# EAGLE library part 54020-32030LF (library SamacSys_Parts)
IC & Component Sockets PLCC THRU-HOLE 32P Source: Datasheet <https://cdn.amphenol-icc.com/media/wysiwyg/files/drawing/54020.pdf>
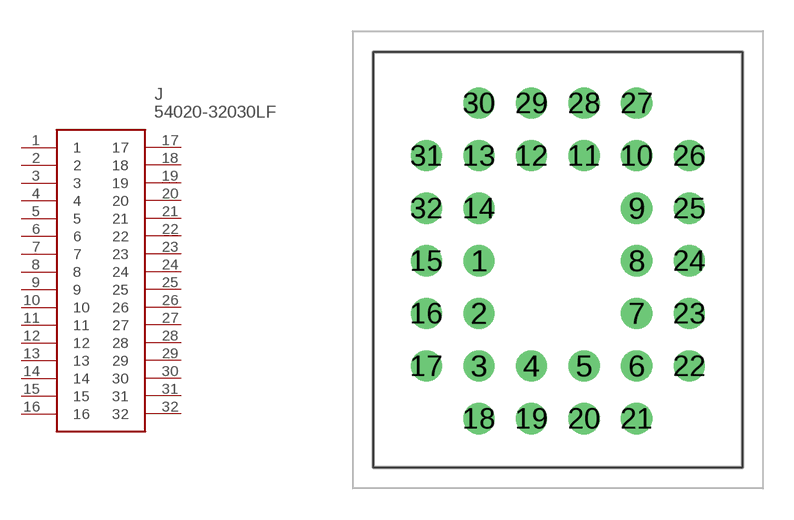
[diagram p169: symbol with the pads of 5402032030LF; footprint 5402032030LF]

Designator prefix J

## 54020-32030LF (DESCRIPTION: IC & Component Sockets PLCC THRU-HOLE 32P; HEIGHT: 8.3mm; MANUFACTURER_NAME: Amphenol; MANUFACTURER_PART_NUMBER: 54020-32030LF; MOUSER_PART_NUMBER: 649-54020-32030LF; MOUSER_PRICE-STOCK: https://www.mouser.co.uk/ProductDetail/Amphenol-FCI/54020-32030LF?qs=kJUkXSjFC7xxzPDQdN7LxQ%3D%3D)  [5402032030LF]
1  1
2  2
3  3
4  4
5  5
6  6
7  7
8  8
9  9
10  10
11  11
12  12
13  13
14  14
15  15
16  16
17  17
18  18
19  19
20  20
21  21
22  22
23  23
24  24
25  25
26  26
27  27
28  28
29  29
30  30
31  31
32  32

## Footprint 5402032030LF (pad centres in mm)
54020-32030LF-4
drill 1 pad 1.5: 1 0,0; 2 0,-2.54; 3 0,-5.08; 4 2.54,-5.08; 5 5.08,-5.08; 6 7.62,-5.08; 7 7.62,-2.54; 8 7.62,0; 9 7.62,2.54; 10 7.62,5.08; 11 5.08,5.08; 12 2.54,5.08; 13 0,5.08; 14 0,2.54; 15 -2.54,0; 16 -2.54,-2.54; 17 -2.54,-5.08; 18 0,-7.62; 19 2.54,-7.62; 20 5.08,-7.62; 21 7.62,-7.62; 22 10.16,-5.08; 23 10.16,-2.54; 24 10.16,0; 25 10.16,2.54; 26 10.16,5.08; 27 7.62,7.62; 28 5.08,7.62; 29 2.54,7.62; 30 0,7.62; 31 -2.54,5.08; 32 -2.54,2.54